# Altium schematic symbol library xbee.SchLib: 6 symbols
Pins are listed as number, name and electrical type; pins without a type are passive.

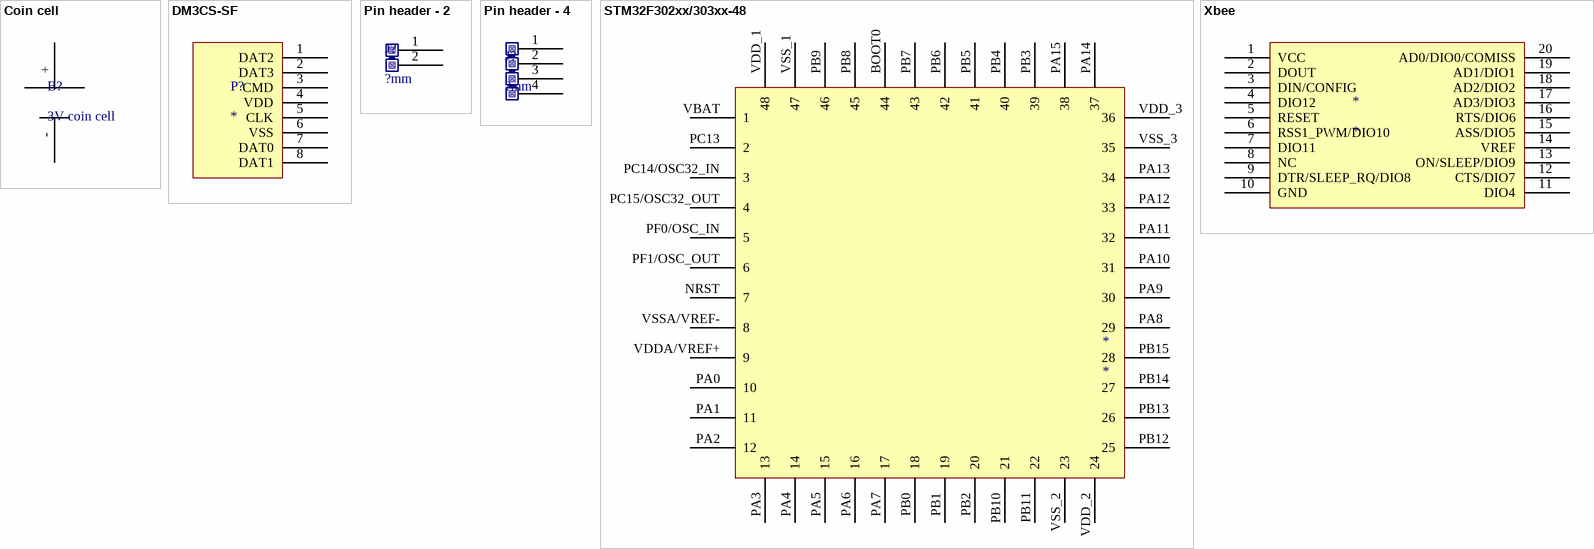
[diagram p0: symbols Coin cell to Xbee]

## Coin cell
designator B?, comment 3V coin cell
footprint VBAT
pins: +, -

## DM3CS-SF
designator P?
footprint USD
pins: 1 DAT2, 2 DAT3, 3 CMD, 4 VDD, 5 CLK, 6 VSS, 7 DAT0, 8 DAT1

## Pin header - 2
designator J?, comment ?mm
footprint PIN-HEADER-1x2-2mm - duplicate (Pin header, 2mm, 1x5)
pins: 1, 2

## Pin header - 4
designator J?, comment ?mm
footprint PIN-HEADER-1x4-2mm (Pin header, 2mm, 1x5)
pins: 1, 2, 3, 4

## STM32F302xx/303xx-48
designator *
footprint STM32F303xx - 48
pins: BOOT0 44, NRST 7, PA0 10, PA1 11, PA2 12, PA3 13, PA4 14, PA5 15, PA6 16, PA7 17, PA8 29, PA9 30, PA10 31, PA11 32, PA12 33, PA13 34, PA14 37, PA15 38, PB0 18, PB1 19, PB2 20, PB3 39, PB4 40, PB5 41, PB6 42, PB7 43, PB8 45, PB9 46, PB10 21, PB11 22, PB12 25, PB13 26, PB14 27, PB15 28, PC13 2, PC14/OSC32_IN 3, PC15/OSC32_OUT 4, PF0/OSC_IN 5, PF1/OSC_OUT 6, VBAT 1, VDD_1 48, VDD_2 24, VDD_3 36, VDDA/VREF+ 9, VSS_1 47, VSS_2 23, VSS_3 35, VSSA/VREF- 8

## Xbee
designator *
footprint XBEE - duplicate1
pins: 1 VCC, 2 DOUT, 3 DIN/CONFIG, 4 DIO12, 5 RESET, 6 RSS1_PWM/DIO10, 7 DIO11, 8 NC, 9 DTR/SLEEP_RQ/DIO8, 10 GND, 11 DIO4, 12 CTS/DIO7, 13 ON/SLEEP/DIO9, 14 VREF, 15 ASS/DIO5, 16 RTS/DIO6, 17 AD3/DIO3, 18 AD2/DIO2, 19 AD1/DIO1, 20 AD0/DIO0/COMISS